# Altium footprint library USB2RS485.PcbLib: 4 footprints
Each footprint in its own frame and in the unit in brackets; x right, y up, seen from the top. Pads: shape width x height; smd on the part's side, far side on the other; paste and mask are expansions set on the pad; w line width, h text height; cw(c..) or ccw(c..) is an arc to the next point about the centre after c.
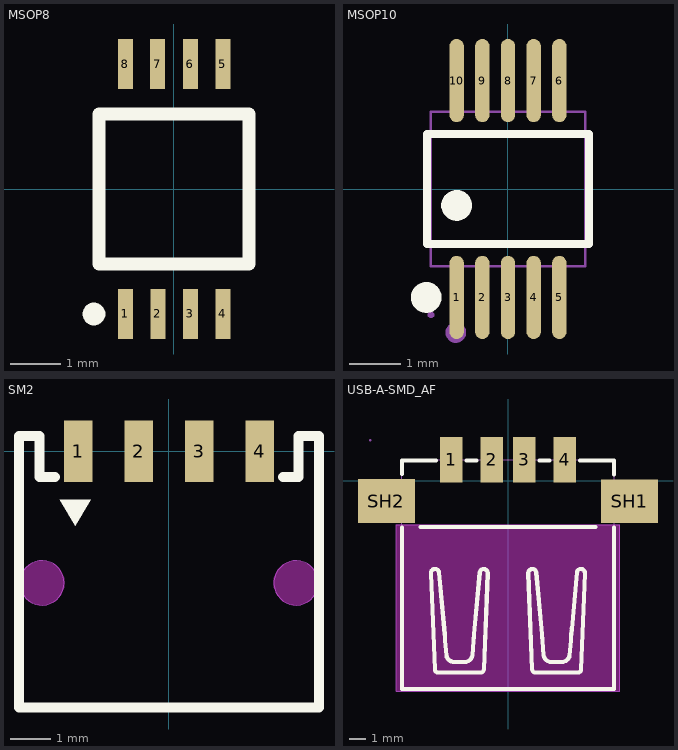
[diagram p0: the footprints below, top view; thin cyan lines are the x and y axes]

## MSOP8 [mm]
pads (8):
  rect 0.3x1 smd: 1(-0.975,-2.5) 2(-0.325,-2.5) 3(0.325,-2.5) 4(0.975,-2.5) 5(0.975,2.5) 6(0.325,2.5) 7(-0.325,2.5) 8(-0.975,2.5)
Top Overlay:
  circle w0.254: c-1.6,-2.5 r0.1
  lines w0.254: -1.5,-1.5 -1.5,1.5 1.5,1.5 1.5,-1.5 -1.5,-1.5
3D body: height 0.25, standoff 0, extent -1.5,-2.1 1.5,2.1
3D body: height 0.25, standoff 0, extent 3,0 3,0

## MSOP10 [mm]
pads (10):
  oval 0.28x1.62 smd paste+0 mask+0.051: 1(-1,-2.11) 2(-0.5,-2.11) 3(0,-2.11) 4(0.5,-2.11) 5(1,-2.11) 6(1,2.11) 7(0.5,2.11) 8(0,2.11) 9(-0.5,2.11) 10(-1,2.11)
Top Overlay:
  circle w0.3: c-1,-0.319 r0.15
  circle w0.3: c-1.592,-2.11 r0.15
  lines w0.152: -1.576,-1.071 -1.576,1.071 1.576,1.071 1.576,-1.071 -1.576,-1.071
Mechanical 6:
  circle w0.2: c-1.016,-2.794 r0.1
Mechanical 15:
  region: -1.44,-2.45 -1.44,-2.425 -1.475,-2.39 -1.525,-2.39 -1.56,-2.425 -1.56,-2.45 -1.56,-2.475 -1.525,-2.51 -1.475,-2.51 -1.44,-2.475
  region: -1.112,-2.45 -1.112,-1.9 -0.887,-1.9 -0.887,-2.45
  region: -1.112,-1.91 -1.112,-1.49 -0.887,-1.49 -0.887,-1.91
  region: -0.612,-2.45 -0.612,-1.9 -0.387,-1.9 -0.387,-2.45
  region: -0.612,-1.91 -0.612,-1.49 -0.387,-1.49 -0.387,-1.91
  region: -0.112,-2.45 -0.112,-1.9 0.112,-1.9 0.112,-2.45
  region: -0.112,-1.91 -0.112,-1.49 0.112,-1.49 0.112,-1.91
  region: 0.388,-2.45 0.388,-1.9 0.612,-1.9 0.612,-2.45
  region: 0.388,-1.91 0.388,-1.49 0.612,-1.49 0.612,-1.91
  region: 0.888,-2.45 0.888,-1.9 1.112,-1.9 1.112,-2.45
  region: 0.888,-1.91 0.888,-1.49 1.112,-1.49 1.112,-1.91
  region: -1.112,2.45 -1.112,1.9 -0.887,1.9 -0.887,2.45
  region: -1.112,1.91 -1.112,1.49 -0.887,1.49 -0.887,1.91
  region: -0.612,2.45 -0.612,1.9 -0.387,1.9 -0.387,2.45
  region: -0.612,1.91 -0.612,1.49 -0.387,1.49 -0.387,1.91
  region: -0.112,2.45 -0.112,1.9 0.112,1.9 0.112,2.45
  region: -0.112,1.91 -0.112,1.49 0.112,1.49 0.112,1.91
  region: 0.388,2.45 0.388,1.9 0.612,1.9 0.612,2.45
  region: 0.388,1.91 0.388,1.49 0.612,1.49 0.612,1.91
  region: 0.888,2.45 0.888,1.9 1.112,1.9 1.112,2.45
  region: 0.888,1.91 0.888,1.49 1.112,1.49 1.112,1.91
  lines w0.051: -1.5,-1.5 -1.5,1.5 1.5,1.5 1.5,-1.5 -1.5,-1.5
3D body: height 1.1, standoff 0, extent -1.5,-1.5 1.5,1.5

## SM2 [mm]
pads (4):
  rect 0.7x1.524 smd paste+0 mask+0.05: 1(-2.25,0) 2(-0.75,0) 3(0.75,0) 4(2.25,0)
Top Overlay:
  region: -2.322,-1.841 -1.941,-1.206 -2.703,-1.206
  lines w0.254: -2.831,-0.635 -3.211,-0.635 -3.211,0.381 -3.719,0.381 -3.719,-6.35 3.719,-6.35 3.719,0.381 3.211,0.381 3.211,-0.635 2.831,-0.635
Keep-Out Layer:
  board cut-out: -2.6,-3.262 -2.6,-3.152 -2.684,-2.95 -2.838,-2.796 -3.04,-2.712 -3.259,-2.712 -3.461,-2.796 -3.616,-2.95 -3.7,-3.152 -3.7,-3.262 -3.7,-3.371 -3.616,-3.573 -3.461,-3.728 -3.259,-3.812 -3.04,-3.812 -2.838,-3.728 -2.684,-3.573 -2.6,-3.371
  board cut-out: 3.7,-3.262 3.7,-3.152 3.616,-2.95 3.461,-2.796 3.259,-2.712 3.04,-2.712 2.838,-2.796 2.684,-2.95 2.6,-3.152 2.6,-3.262 2.6,-3.371 2.684,-3.573 2.838,-3.728 3.04,-3.812 3.259,-3.812 3.461,-3.728 3.616,-3.573 3.7,-3.371
Mechanical 1:
  circle w0.005: c-3.15,-3.262 r0.55
  circle w0.005: c3.15,-3.262 r0.55
3D body "3D_PCB1_2023-06-04 (1).step": height 1.6, standoff 0, extent -3.825,-6.467 3.841,2.066

## USB-A-SMD_AF [mm]
pads (6):
  rect 1.4x2.8 smd paste+0 mask+0.051: 1(-3.5,1.3) 2(-1,1.3) 3(1,1.3) 4(3.5,1.3)
  rect 3.5x2.7 smd paste+0 mask+0.051: SH1(7.5,-1.27) SH2(-7.5,-1.26)
Top Overlay:
  lines w0.254: -6.544,-2.881 -6.544,-3.3 -6.544,-12.84 6.544,-12.84 6.544,-3.3 6.544,-2.881 ; -6.544,0.4 -6.544,0.551 -6.544,1.251 -4.45,1.251 ; -5.4,-2.847 5.4,-2.847 ; -4.74,-5.627 -4.747,-5.706 -4.504,-11.647 -4.491,-11.706 -4.465,-11.758 -4.419,-11.804 -4.367,-11.83 -4.301,-11.837 -1.691,-11.837 -1.633,-11.83 -1.573,-11.804 -1.534,-11.758 -1.501,-11.706 -1.488,-11.647 -1.252,-5.706 -1.259,-5.627 -1.292,-5.555 -1.341,-5.501 -1.407,-5.462 -1.48,-5.445 -1.554,-5.451 -1.625,-5.479 -1.681,-5.527 -1.721,-5.588 ; -4.738,-5.621 -4.702,-5.55 -4.651,-5.497 -4.584,-5.46 -4.51,-5.445 -4.434,-5.452 -4.364,-5.482 -4.308,-5.531 -4.268,-5.595 -4.249,-5.673 -3.934,-9.129 -3.901,-9.463 -3.888,-9.601 -3.881,-9.693 ; -3.776,-10.866 -3.796,-10.775 -3.881,-9.87 ; -3.775,-10.871 -3.753,-10.923 -3.721,-10.974 -3.679,-11.025 -3.635,-11.067 -3.582,-11.105 -3.523,-11.136 -3.462,-11.16 -3.403,-11.175 -3.298,-11.181 -2.695,-11.181 -2.59,-11.175 ; -2.584,-11.173 -2.452,-11.125 -2.359,-11.066 -2.284,-10.985 -2.216,-10.866 -2.196,-10.775 -2.118,-9.87 -2.111,-9.693 -2.105,-9.601 -2.091,-9.463 -2.059,-9.129 -1.744,-5.673 -1.724,-5.595 ; -2.55,1.251 -1.95,1.251 ; 1.259,-5.627 1.246,-5.706 1.489,-11.647 1.502,-11.706 1.535,-11.758 1.574,-11.804 1.633,-11.83 1.692,-11.837 4.302,-11.837 4.367,-11.83 4.42,-11.804 4.466,-11.758 4.492,-11.706 4.505,-11.647 4.748,-5.706 4.735,-5.627 4.708,-5.56 4.657,-5.501 4.59,-5.462 4.515,-5.446 4.438,-5.452 4.366,-5.481 4.31,-5.528 4.272,-5.588 ; 1.261,-5.62 1.293,-5.554 1.342,-5.499 1.408,-5.461 1.481,-5.444 1.561,-5.452 1.625,-5.479 1.682,-5.527 1.725,-5.595 1.745,-5.673 2.059,-9.129 2.092,-9.463 2.105,-9.601 2.112,-9.693 2.118,-9.87 2.197,-10.775 2.217,-10.866 2.285,-10.985 2.36,-11.066 2.453,-11.125 2.584,-11.173 ; 1.95,1.251 2.55,1.251 ; 2.59,-11.175 2.695,-11.181 3.299,-11.181 3.403,-11.175 3.532,-11.131 3.584,-11.103 3.636,-11.067 3.678,-11.028 3.719,-10.979 3.775,-10.872 ; 3.777,-10.866 3.797,-10.775 3.882,-9.87 ; 4.269,-5.595 4.249,-5.673 3.935,-9.129 3.902,-9.463 3.888,-9.601 3.882,-9.693 ; 4.45,1.251 6.544,1.251 6.544,0.551 6.544,0.38 ; -3.881,-9.87 -3.881,-9.693 ; -3.881,-9.87 -3.881,-9.739 -3.881,-9.693 ; 3.882,-9.87 3.882,-9.693 ; 3.882,-9.87 3.882,-9.739 3.882,-9.693
Keep-Out Layer:
  board cut-out: -6.877,-2.726 -6.877,-12.98 6.877,-12.98 6.877,-2.726
Keep-Out Layer:
  lines w0.254: -6.65,-3.2 6.65,-3.2 -6.65,-3.2
Mechanical 1:
  lines w0.005: -6.877,-12.98 6.877,-12.98 6.877,-2.726 -6.877,-2.726 -6.877,-12.98
Mechanical 6:
  circle w0.3: c-3.501,1.465 r0.15
Mechanical 15:
  region: -3.8,2.5 -3.2,2.5 -3.2,0.45 -3.8,0.45
  region: -1.3,2.5 -0.7,2.5 -0.7,0.45 -1.3,0.45
  region: 0.7,2.5 1.3,2.5 1.3,0.45 0.7,0.45
  region: 3.2,2.5 3.8,2.5 3.8,0.45 3.2,0.45
  region: 6.5,-0.35 8.5,-0.35 8.5,-2.25 6.5,-2.25
  region: -8.5,-0.35 -6.5,-0.35 -6.5,-2.25 -8.5,-2.25
  region: -8.44,2.5 -8.44,2.525 -8.475,2.56 -8.525,2.56 -8.56,2.525 -8.56,2.5 -8.56,2.475 -8.525,2.44 -8.475,2.44 -8.44,2.475 -8.44,2.5
  lines w0.051: -6.55,-12.8 6.55,-12.8 6.55,1.3 -6.55,1.3 -6.55,-12.8